# Altium footprint library LQFP50P1200X1200X160-65N.PcbLib: 1 footprints
Each footprint in its own frame and in the unit in brackets; x right, y up, seen from the top. Pads: shape width x height; smd on the part's side, far side on the other; paste and mask are expansions set on the pad; w line width, h text height; cw(c..) or ccw(c..) is an arc to the next point about the centre after c.
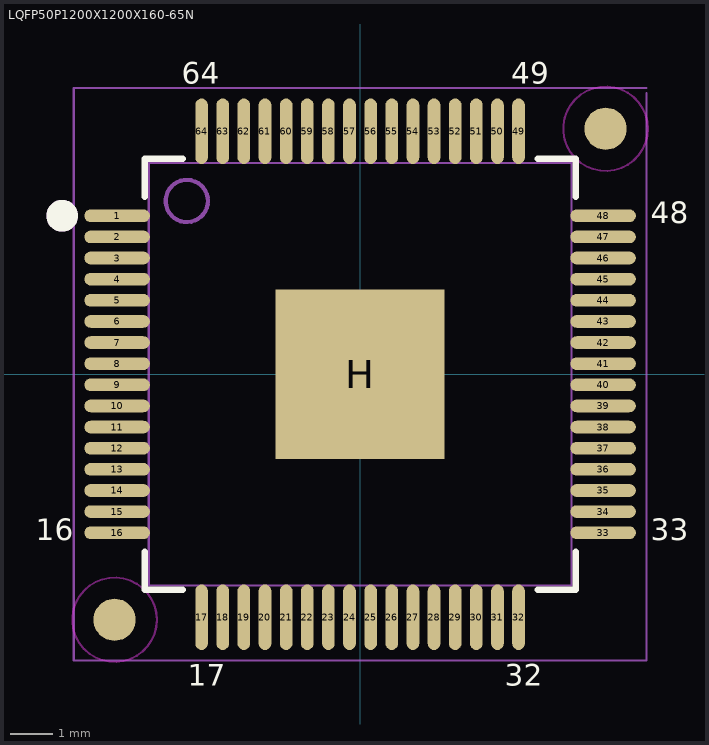
[diagram p0: the footprint, top view; thin cyan lines are the x and y axes]

## LQFP50P1200X1200X160-65N [mm] "TSQFP, 64-Leads, Body 10.00x10.00mm, Pitch 0.50mm, Thermal Pad 4.00x4.00mm, IPC Medium Density"
height 1.6
pads (67):
  oval 1.55x0.3 smd mask+0.051: 1(-5.75,3.75) 2(-5.75,3.25) 3(-5.75,2.75) 4(-5.75,2.25) 5(-5.75,1.75) 6(-5.75,1.25) 7(-5.75,0.75) 8(-5.75,0.25) 9(-5.75,-0.25) 10(-5.75,-0.75) 11(-5.75,-1.25) 12(-5.75,-1.75) 13(-5.75,-2.25) 14(-5.75,-2.75) 15(-5.75,-3.25) 33(5.75,-3.75) 34(5.75,-3.25) 35(5.75,-2.75) 36(5.75,-2.25) 37(5.75,-1.75) 38(5.75,-1.25) 39(5.75,-0.75) 40(5.75,-0.25) 41(5.75,0.25) 42(5.75,0.75) 43(5.75,1.25) 44(5.75,1.75) 45(5.75,2.25) 46(5.75,2.75) 47(5.75,3.25) 48(5.75,3.75)
  oval 1.55x0.3 smd paste+0 mask+0.051: 16(-5.75,-3.75)
  oval 0.3x1.55 smd mask+0.051: 17(-3.75,-5.75) 18(-3.25,-5.75) 19(-2.75,-5.75) 20(-2.25,-5.75) 21(-1.75,-5.75) 22(-1.25,-5.75) 23(-0.75,-5.75) 24(-0.25,-5.75) 25(0.25,-5.75) 26(0.75,-5.75) 27(1.25,-5.75) 28(1.75,-5.75) 29(2.25,-5.75) 30(2.75,-5.75) 31(3.25,-5.75) 32(3.75,-5.75) 49(3.75,5.75) 50(3.25,5.75) 51(2.75,5.75) 52(2.25,5.75) 53(1.75,5.75) 54(1.25,5.75) 55(0.75,5.75) 56(0.25,5.75) 57(-0.25,5.75) 58(-0.75,5.75) 59(-1.25,5.75) 60(-1.75,5.75) 61(-2.25,5.75) 62(-2.75,5.75) 63(-3.25,5.75) 64(-3.75,5.75)
  rect 4x4 smd paste-5: H(0,0)
  round 1 smd paste-2 mask+0.5: ""(-5.81,-5.81) ""(5.81,5.81)
Top Overlay:
  circle w0.5: c-7.05,3.75 r0.125
  lines w0.152: -5.1,-4.2 -5.1,-5.1 -4.2,-5.1 ; -5.1,4.2 -5.1,5.1 -4.2,5.1 ; 4.2,-5.1 5.1,-5.1 5.1,-4.2 ; 4.2,5.1 5.1,5.1 5.1,4.2
  text "64" at -4.223,6.877 h0.51
  text "49" at 3.577,6.877 h0.51
  text "48" at 6.877,3.577 h0.51
  text "33" at 6.877,-3.923 h0.51
  text "32" at 3.427,-7.373 h0.51
  text "17" at -4.073,-7.373 h0.51
  text "16" at -7.673,-3.923 h0.51
Top Paste:
  rectangle: 0.15,0.15 1.8,1.8
  rectangle: -1.8,-1.8 -0.15,-0.15
  rectangle: -1.8,0.15 -0.15,1.8
  rectangle: 0.15,-1.8 1.8,-0.15
Keep-Out Layer:
  circle w0.05: c-5.81,-5.81 r1
  circle w0.05: c5.81,5.81 r1
Mechanical 13:
  circle w0.1: c-4.1,4.1 r0.5
  circle w0.5: c-7.05,3.75 r0.125
  lines w0.05: -5,-5 5,-5 5,5 -5,5 -5,-5
  text "64" at -4.223,6.877 h0.51
  text "49" at 3.577,6.877 h0.51
  text "48" at 6.877,3.577 h0.51
  text "33" at 6.877,-3.923 h0.51
  text "32" at 3.427,-7.373 h0.51
  text "17" at -4.073,-7.373 h0.51
  text "16" at -7.673,-3.923 h0.51
Mechanical 15:
  lines w0.05: 6.775,6.65 6.775,-6.775 -6.775,-6.775 -6.775,6.775 6.775,6.775
3D body "LQFP50P1200X1200X160-65N.stp": height 1.1, standoff 0, extent -6.015,-6.015 6.015,6.015